# EAGLE library part KEYSWITCH-SK6812 (library DIYKeyboard)
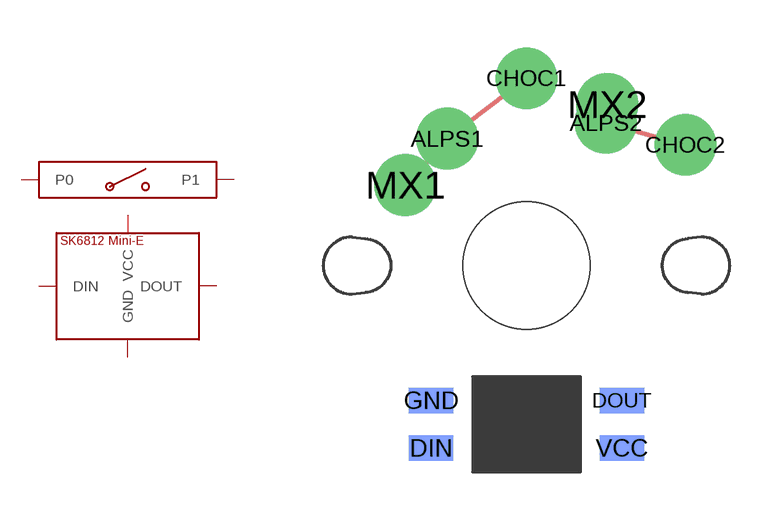
[diagram p0: symbol with the pads of UNIVERSAL_KEYSWITCH_SK6812MINIE; footprint UNIVERSAL_KEYSWITCH_SK6812MINIE]

Designator prefix -

## KEYSWITCH-SK6812  [UNIVERSAL_KEYSWITCH_SK6812MINIE]
ALPS1  P0
ALPS2  P1
CHOC1  P0
CHOC2  P1
DIN  DIN
DOUT  DOUT
GND  GND
MX1  P0
MX2  P1
VCC  VCC

## Footprint UNIVERSAL_KEYSWITCH_SK6812MINIE (pad centres in mm)
Keyboard switch package!
drill 1.3 pad 1.93: ALPS1 -2.5,4; ALPS2 2.5,4.5; MX1 -3.81,2.54; MX2 2.54,5.08
drill 1.2 pad 1.93: CHOC1 0,5.9; CHOC2 5,3.8
smd 1.4 x 0.8 bottom: DIN -3,-5.75; DOUT 3,-4.25; GND -3,-4.25; VCC 3,-5.75
hole 4 at 0,0